# EAGLE library part DIP-BLACK-FEMALE-HEADER-VERT(15P-2.54) (library Seeed-OPL-Connector)
320030031
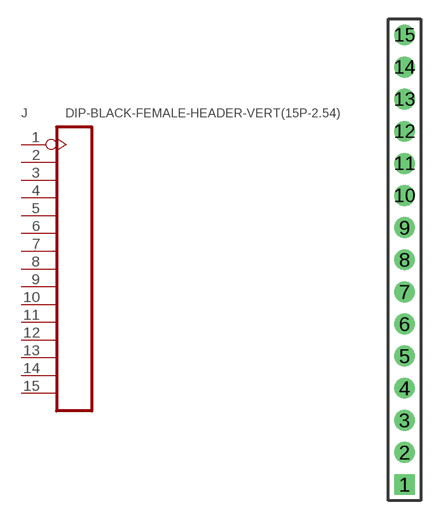
[diagram p68: symbol with the pads of H15-2.54; footprint H15-2.54]

Designator prefix J

## DIP-BLACK-FEMALE-HEADER-VERT(15P-2.54)'2.54'  [H15-2.54]
1  1  pas
2  2  pas
3  3  pas
4  4  pas
5  5  pas
6  6  pas
7  7  pas
8  8  pas
9  9  pas
10  10  pas
11  11  pas
12  12  pas
13  13  pas
14  14  pas
15  15  pas

## Footprint H15-2.54 (pad centres in mm)
drill 0.889 pad 1.651 square: 1 0,-17.78
drill 0.889 pad 1.651: 2 0,-15.24; 3 0,-12.7; 4 0,-10.16; 5 0,-7.62; 6 0,-5.08; 7 0,-2.54; 8 0,0; 9 0,2.54; 10 0,5.08; 11 0,7.62; 12 0,10.16; 13 0,12.7; 14 0,15.24; 15 0,17.78